# Altium footprint library HLK-PM01.PcbLib: 4 footprints
Each footprint in its own frame and in the unit in brackets; x right, y up, seen from the top. Pads: shape width x height; smd on the part's side, far side on the other; paste and mask are expansions set on the pad; w line width, h text height; cw(c..) or ccw(c..) is an arc to the next point about the centre after c.
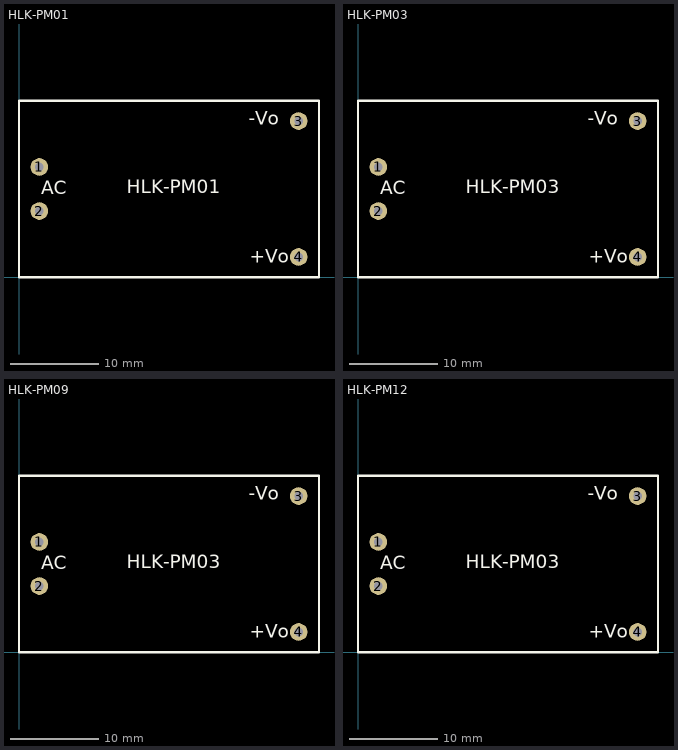
[diagram p0: the footprints below, top view; thin cyan lines are the x and y axes]

## HLK-PM01 [mm] "HLK-PM01 100-250Vca/5Vcc 3W"
pads (4):
  round 2 hole 1: 1(2.3,12.5) 2(2.3,7.5) 3(31.7,17.7) 4(31.7,2.3)
Top Overlay:
  lines w0.254: 0,0 0,20 34,20 34,0 0,0
  text "HLK-PM01" at 12.192,9.525 h1.52
  text "+Vo" at 26.162,1.651 h1.52
  text "-Vo" at 26.035,17.272 h1.52
  text "AC" at 2.54,9.398 h1.52
3D body "HLK-PM01.stp": height 15.01, standoff -2, extent 0.018,0.033 34.018,20.033

## HLK-PM03 [mm] "HLK-PM03 100-250Vca/3.3Vcc 3W"
pads (4):
  round 2 hole 1: 1(2.3,12.5) 2(2.3,7.5) 3(31.7,17.7) 4(31.7,2.3)
Top Overlay:
  lines w0.254: 0,0 0,20 34,20 34,0 0,0
  text "HLK-PM03" at 12.192,9.525 h1.52
  text "+Vo" at 26.162,1.651 h1.52
  text "-Vo" at 26.035,17.272 h1.52
  text "AC" at 2.54,9.398 h1.52
3D body "HLK-PM03.stp": height 15.01, standoff -2, extent 0,0.033 34,20.033

## HLK-PM09 [mm] "HLK-PM09 100-250Vca/9Vcc 3W"
pads (4):
  round 2 hole 1: 1(2.3,12.5) 2(2.3,7.5) 3(31.7,17.7) 4(31.7,2.3)
Top Overlay:
  lines w0.254: 0,0 34,0 34,20 0,20 0,0
  text "AC" at 2.54,9.398 h1.52
  text "-Vo" at 26.035,17.272 h1.52
  text "+Vo" at 26.162,1.651 h1.52
  text "HLK-PM03" at 12.192,9.525 h1.52
3D body "HLK-PM09.stp": height 15.01, standoff -2, extent 0.018,0.033 34.018,20.033

## HLK-PM12 [mm] "HLK-PM12 100-250Vca/9Vcc 3W"
pads (4):
  round 2 hole 1: 1(2.3,12.5) 2(2.3,7.5) 3(31.7,17.7) 4(31.7,2.3)
Top Overlay:
  lines w0.254: 0,0 0,20 34,20 34,0 0,0
  text "HLK-PM03" at 12.192,9.525 h1.52
  text "+Vo" at 26.162,1.651 h1.52
  text "-Vo" at 26.035,17.272 h1.52
  text "AC" at 2.54,9.398 h1.52
3D body "HLK-PM12.stp": height 15.01, standoff -2, extent 0,0.033 34,20.033